# Altium footprint library 662302235922.PcbLib: 1 footprints
Each footprint in its own frame and in the unit in brackets; x right, y up, seen from the top. Pads: shape width x height; smd on the part's side, far side on the other; paste and mask are expansions set on the pad; w line width, h text height; cw(c..) or ccw(c..) is an arc to the next point about the centre after c.
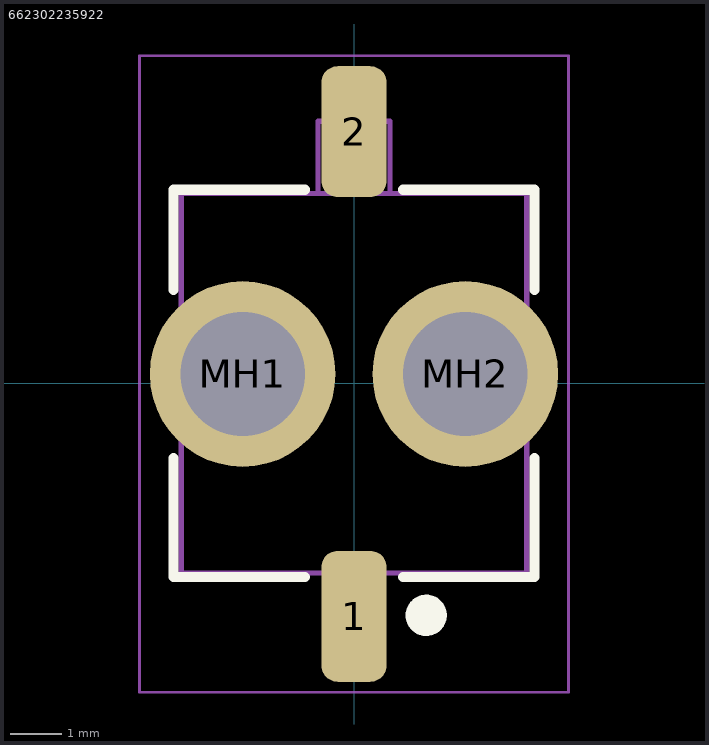
[diagram p0: the footprint, top view; thin cyan lines are the x and y axes]

## 662302235922 [mm]
pads (4):
  rrect50% 1.27x2.54 smd: 1(0,-4.52) 2(0,4.88)
  round 3.6 hole 2.41: MH1(-2.16,0.18) MH2(2.16,0.18)
Top Overlay:
  circle w0.4: c1.4,-4.5 r0.2
  lines w0.2: -3.5,-1.455 -3.5,-3.755 -0.95,-3.755 ; -3.5,1.815 -3.5,3.755 -0.95,3.755 ; 0.95,-3.755 3.5,-3.755 3.5,-1.455 ; 0.95,3.755 3.5,3.755 3.5,1.815
Top Assembly:
  lines w0.1: -0.7,3.68 -0.7,5.08 0.7,5.08 0.7,3.68 ; -3.35,-3.68 -3.35,3.68 3.35,3.68 3.35,-3.68 -3.35,-3.68
Top Courtyard:
  lines w0.05: -4.16,-5.99 4.16,-5.99 4.16,6.35 -4.16,6.35 -4.16,-5.99
3D body "662302235922.stp": height 11.42, standoff -3.08, extent -3.35,-5.45 3.35,5.95